# Altium schematic symbol library ESP32_Tang1.SCHLIB: 101 symbols
Pins are listed as number, name and electrical type; pins without a type are passive.

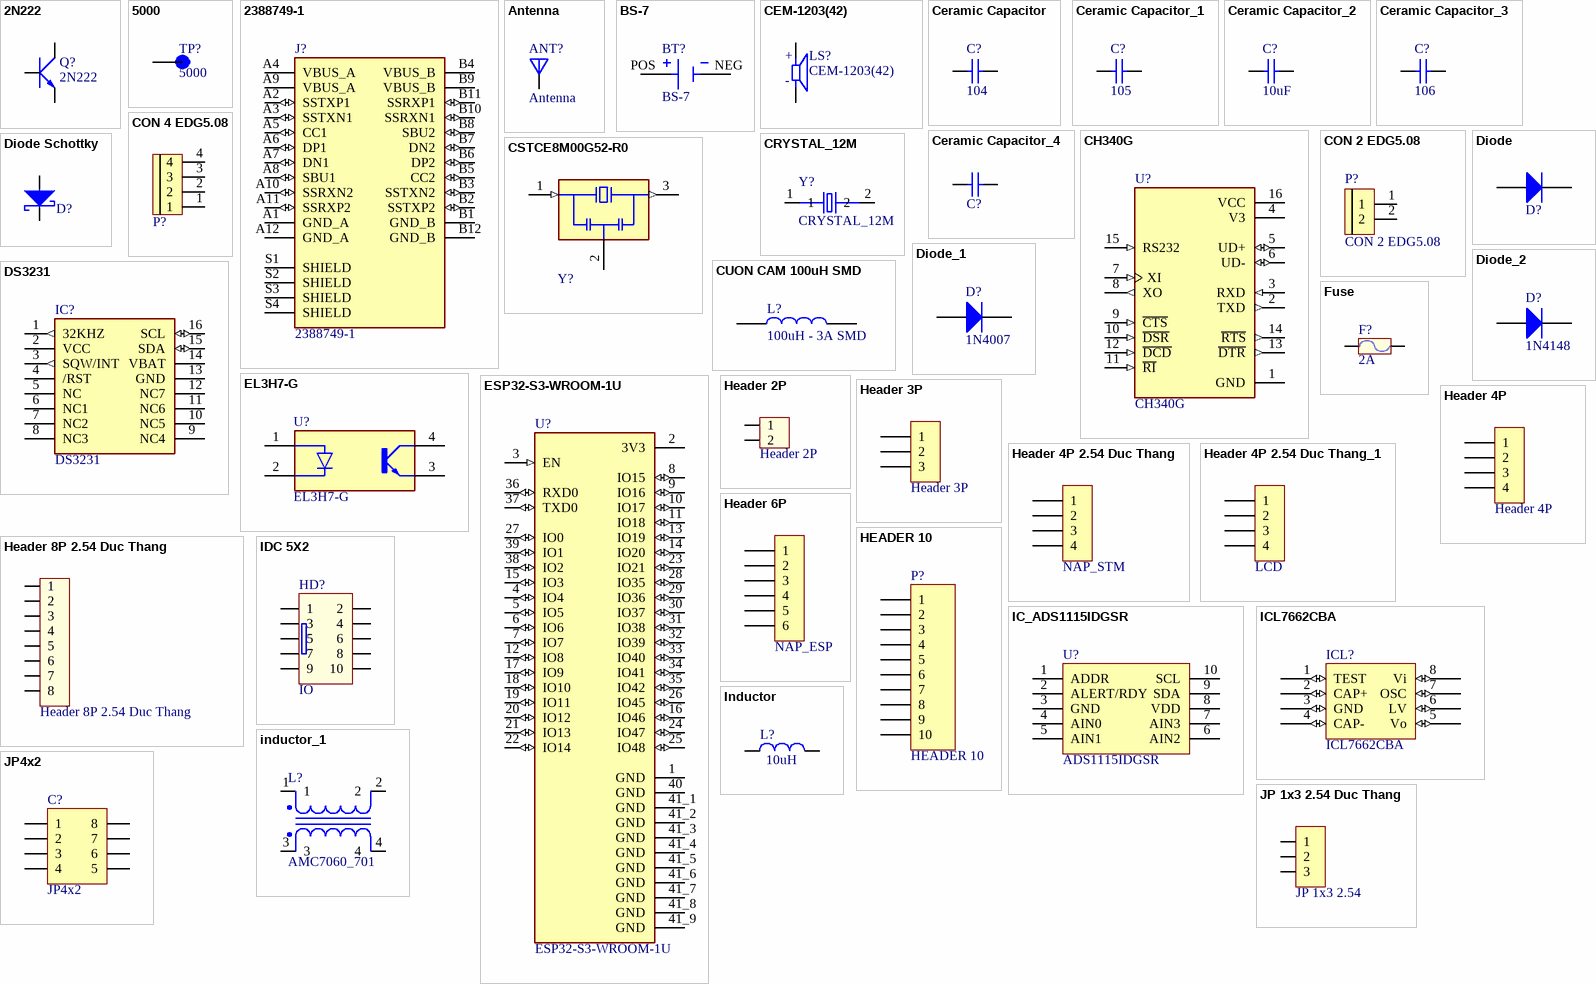
[diagram p0: symbols 2N222 to JP 1x3 2.54 Duc Thang]

## 2N222
designator Q?
NPN 600mW, ECB; Value: C1815
footprint TO92-123 (TO-92)
footprint SOT23-231
footprint TO92-123 - 1 (TO-92)
footprint TO92-123 - 2 (TO-92)
footprint TO92-123 - 3 (TO-92)
pins: 1 E, 2 B, 3 C

## 5000
designator TP?
PC Test Point - Miniature; MF: Keystone Electronics; Purchase-URL: https://pricing.snapeda.com/search/part/5000/?ref=eda; Check_prices: https://www.snapeda.com/parts/5000/Keystone+Electronics/view-part/?ref=eda; Value: *; Price: None; Availability: In Stock; Package: Test Point Keystone Electronics; MP: 5000; SnapEDA_Link: https://www.snapeda.com/parts/5000/Keystone+Electronics/view-part/?ref=snap
footprint KEYSTONE_5000
pins: TP

## 2388749-1
designator J?
USB-C (USB TYPE-C) USB 4.0 Receptacle Connector 24 Position Surface Mount, Right Angle; Through Hole; MF: TE Connectivity; Value: *; SnapEDA_Link: https://www.snapeda.com/parts/2388749-1/TE+Connectivity/view-part/?ref=snap; Purchase-URL: https://pricing.snapeda.com/search/part/2388749-1/?ref=eda; Availability: In Stock; Price: None; Package: None; Check_prices: https://www.snapeda.com/parts/2388749-1/TE+Connectivity/view-part/?ref=eda; MP: 2388749-1
footprint USBC
pins: A1 GND_A (power), A2 SSTXP1 (io), A3 SSTXN1 (io), A4 VBUS_A (power), A5 CC1 (io), A6 DP1 (io), A7 DN1 (io), A8 SBU1 (io), A9 VBUS_A (power), A10 SSRXN2 (io), A11 SSRXP2 (io), A12 GND_A (power), B1 GND_B (power), B2 SSTXP2 (io), B3 SSTXN2 (io), B4 VBUS_B (power), B5 CC2 (io), B6 DP2 (io), B7 DN2 (io), B8 SBU2 (io), B9 VBUS_B (power), B10 SSRXN1 (io), B11 SSRXP1 (io), B12 GND_B (power), S1 SHIELD, S2 SHIELD, S3 SHIELD, S4 SHIELD

## Antenna
designator ANT?
footprint ANTENNA (for ESP32)
pins: 1 ANT

## BS-7
designator BT?
Battery Holder (Open) Coin, 20.0mm 1 Cell PC Pin; MF: MPD (Memory; SnapEDA_Link: https://www.snapeda.com/parts/BS-7/MPD+%2528Memory+Protection+Devices%2529/view-part/?ref=snap; Package: None; MP: BS-7; Check_prices: https://www.snapeda.com/parts/BS-7/MPD+%2528Memory+Protection+Devices%2529/view-part/?ref=eda; Purchase-URL: https://pricing.snapeda.com/search/part/BS-7/?ref=eda; Digi-Key_Part_Number: BS-7-ND; Value: *
footprint BAT_BS-7
pins: NEG, POS

## CEM-1203(42)
designator LS?
12 mm, 3.5 V, 85 dB, Through Hole, Magnetic Audio Transducer Buzzer; MF: CUI Devices; Package: None; Price: None; Check_prices: https://www.snapeda.com/parts/CEM-1203(42)/CUI+Devices/view-part/?ref=eda; Value: *; CUI_purchase_URL: https://www.cuidevices.com/product/audio/buzzers/audio-transducers/cem-1203(42)?utm_source=snapeda.com&utm_medium=referral&utm_campaign=snapedaBOM; SnapEDA_Link: https://www.snapeda.com/parts/CEM-1203(42)/CUI+Devices/view-part/?ref=snap; MP: CEM-1203(42); Availability: In Stock; Purchase-URL: https://pricing.snapeda.com/search/part/CEM-1203(42)/?ref=eda
footprint CUI_CEM-1203(42)
pins: N, P
text: +; -

## Ceramic Capacitor
designator C?, comment 104
Chung_Loai: Dán; Don_Vi: Con; So_Chan: 2; Ten_Linh_Kien: Tụ 0805 104-100nF 10% 50V; Ma_Hang: MH004551; Kieu_Chan: *
footprint 0603_Cap (0603 SMD Ceramic Capacitor)
footprint 0805_Cap (0805 SMD Ceramic Capacitor)
footprint 1206_CAP (3216 Tantalum Capacitor)
pins: 1, 2

## Ceramic Capacitor_1
designator C?, comment 105
Chung_Loai: Dán; Don_Vi: Con; So_Chan: 2; Ten_Linh_Kien: Tụ 0805 104-100nF 10% 50V; Ma_Hang: MH004551; Kieu_Chan: *
footprint 0603_Cap (0603 SMD Ceramic Capacitor)
footprint 0805_Cap (0805 SMD Ceramic Capacitor)
footprint 1206_CAP (3216 Tantalum Capacitor)
pins: 1, 2

## Ceramic Capacitor_2
designator C?, comment 10uF
Chung_Loai: Dán; Don_Vi: Con; So_Chan: 2; Ten_Linh_Kien: Tụ 0805 104-100nF 10% 50V; Ma_Hang: MH004551; Kieu_Chan: *
footprint 0603_Cap (0603 SMD Ceramic Capacitor)
footprint 0805_Cap (0805 SMD Ceramic Capacitor)
footprint 1206_CAP (3216 Tantalum Capacitor)
pins: 1, 2

## Ceramic Capacitor_3
designator C?, comment 106
Chung_Loai: Dán; Don_Vi: Con; So_Chan: 2; Ten_Linh_Kien: Tụ 0805 104-100nF 10% 50V; Ma_Hang: MH004551; Kieu_Chan: *
footprint 0603_Cap (0603 SMD Ceramic Capacitor)
footprint 0805_Cap (0805 SMD Ceramic Capacitor)
footprint 1206_CAP (3216 Tantalum Capacitor)
pins: 1, 2

## Ceramic Capacitor_4
designator C?, comment 101  (value not drawn)
Chung_Loai: Dán; Don_Vi: Con; So_Chan: 2; Ten_Linh_Kien: Tụ 0805 104-100nF 10% 50V; Ma_Hang: MH004551; Kieu_Chan: *
footprint 0603_Cap (0603 SMD Ceramic Capacitor)
footprint 0805_Cap (0805 SMD Ceramic Capacitor)
footprint 1206_CAP (3216 Tantalum Capacitor)
pins: 1, 2

## CH340G
designator U?
USB Interface Integrated Circuit; MF: WCH; Value: *; SnapEDA_Link: https://www.snapeda.com/parts/Ch340G/WCH/view-part/?ref=snap; MP: Ch340G; Check_prices: https://www.snapeda.com/parts/Ch340G/WCH/view-part/?ref=eda; Availability: Not in stock; Price: None; Package: None
footprint SOIC127P600X180-16N
pins: 1 GND (power), 2 TXD (out), 3 RXD (in), 4 V3 (power), 5 UD+ (io), 6 UD- (io), 7 XI (in), 8 XO (out), 9 ~{CTS} (in), 10 ~{DSR} (in), 11 ~{RI} (in), 12 ~{DCD} (in), 13 ~{DTR} (out), 14 ~{RTS} (out), 15 RS232 (in), 16 VCC (power)

## CON 2 EDG5.08
designator P?
Cắm; Ten_Linh_Kien: CON 2 2EDG5.08-2P 5.08MM ( Xanh Cong); Ma_Hang: MH000759; Ghi_Chu: *; Don_Vi: Con; Kieu_Chan: *; Chung_Loai: Cắm
footprint CON 2 2EDG5.08
pins: 1, 2

## CON 4 EDG5.08
designator P?  (value not drawn)
Cắm; Ten_Linh_Kien: CON 4 2EDG5.08-4P 5.08MM ( Xanh Cong); Ma_Hang: MH000979; Don_Vi: Con; Ghi_Chu: *; Kieu_Chan: *; Chung_Loai: Cắm
footprint CON 4 4EDG5.08
pins: 1, 2, 3, 4

## CRYSTAL_12M
designator Y?
HC49SDLF Series 12.288 MHz Â±30 ppm 20 pF -20 to +70 Â°C Resistance Weld Crystal; MF: Fox Electronics; MP: FOXSDLF/128-20/TR; Price: None; Package: None; Availability: Unavailable; Value: *; SnapEDA_Link: https://www.snapeda.com/parts/FOXSDLF/128-20/TR/Fox%20Electronics/view-part/1118363/?ref=snap
footprint XTAL1170X500X450
pins: 1, 2

## CSTCE8M00G52-R0
designator Y?  (value not drawn)
8MHz Ceramic Resonator Built in Capacitor 10pF Â±0.2% -20Â°C ~ 80Â°C Surface Mount; MF: Murata; Price: None; Check_prices: https://www.snapeda.com/parts/CSTCE8M00G52-R0/Murata%20Electronics%20North%20America/view-part/234504/?ref=eda; SnapEDA_Link: https://www.snapeda.com/parts/CSTCE8M00G52-R0/Murata%20Electronics%20North%20America/view-part/234504/?ref=snap; Package: Surface Mount Murata Electronics North America; Availability: Bad; MP: CSTCE8M00G52-R0; Value: *
footprint OSC_CSTCE8M00G52-R0
pins: 1 IN (in), 2 GND (power), 3 OUT (out)

## CUON CAM 100uH SMD
designator L?, comment 100uH - 3A SMD
Dán; Don_Vi: Con; Ma_Hang: MH003999; Ten_Linh_Kien: Cuộn Cảm 100uH 7x7x4MM CD74; Ma_Hang: *; Kieu_Chan: *; Chung_Loai: Dán
footprint Cuon Cam 12x12x10
pins: 1, 2

## Diode
designator D?, comment RS3M  (value not drawn)
Ten_Linh_Kien: Diode S4 SOD123 ( 1N5819 SOD123); Ma_Hang: MH005519; Chung_Loai: Dán; Don_Vi: Con; Ghi_Chu: *; Kieu_Chan: *
footprint SMC - DO-214 (TVS Diode)
footprint SMA - DO-214AC (TVS Diode)
footprint SMB - DO-214AA (TVS Diode)
footprint SOD-323
pins: 1, 2

## Diode Schottky
designator D?, comment SS24  (value not drawn)
Diode Schottky; Part Number: LED 3 ly Single Colour; Pricing: *
footprint DO-214AC
footprint SOD123
footprint DIO-SMD-106
pins: 1, 2

## Diode_1
designator D?, comment 1N4007
Ten_Linh_Kien: Diode S4 SOD123 ( 1N5819 SOD123); Ma_Hang: MH005519; Chung_Loai: Dán; Don_Vi: Con; Ghi_Chu: *; Kieu_Chan: *
footprint SMC - DO-214 (TVS Diode)
footprint SMA - DO-214AC (TVS Diode)
footprint SMB - DO-214AA (TVS Diode)
footprint SOD-323
pins: 1, 2

## Diode_2
designator D?, comment 1N4148
Ten_Linh_Kien: Diode S4 SOD123 ( 1N5819 SOD123); Ma_Hang: MH005519; Chung_Loai: Dán; Don_Vi: Con; Ghi_Chu: *; Kieu_Chan: *
footprint SMC - DO-214 (TVS Diode)
footprint SMA - DO-214AC (TVS Diode)
footprint SMB - DO-214AA (TVS Diode)
footprint SOD-323
pins: 1, 2

## DS3231
designator IC?  (value not drawn)
Real Time Clock (RTC) IC Clock/Calendar - IÂ²C, 2-Wire Serial 8-SOIC (0.154, 3.90mm Width); MF: Maxim Integrated; Check_prices: https://www.snapeda.com/parts/DS3231/Maxim+Integrated/view-part/?ref=eda; Value: *; Availability: In Stock; MP: DS3231; Price: None; Package: SOIC-16 Maxim Integrated; SnapEDA_Link: https://www.snapeda.com/parts/DS3231/Maxim+Integrated/view-part/?ref=snap; Purchase-URL: https://pricing.snapeda.com/search/part/DS3231/?ref=eda
footprint SOIC-16
pins: 1 32KHZ (out), 2 VCC (power), 3 SQW/INT (out), 4 /RST, 5 NC, 6 NC1, 7 NC2, 8 NC3, 9 NC4, 10 NC5, 11 NC6, 12 NC7, 13 GND (power), 14 VBAT (power), 15 SDA (io), 16 SCL (io)

## EL3H7-G
designator U?
Optoisolator Transistor Output 3750Vrms 1 Channel 4-SSOP; MF: Everlight Electronics; Check_prices: https://www.snapeda.com/parts/EL3H7-G/Everlight+Electronics+Co+Ltd/view-part/?ref=eda; Value: *; Availability: In Stock; MP: EL3H7-G; Price: None; Package: SSOP-4 Everlight Electronics; SnapEDA_Link: https://www.snapeda.com/parts/EL3H7-G/Everlight+Electronics+Co+Ltd/view-part/?ref=snap
footprint SSOP-4 (SMD)
pins: 1 A, 2 C, 3 E, 4 CO

## ESP32-S3-WROOM-1U
designator U?
2.4 GHz Wi-Fi (802.11 b/g/n) and Bluetooth 5 (LE) module; MF: Espressif Systems; Value: *; Package: Package; Check_prices: https://www.snapeda.com/parts/ESP32-S3-WROOM-1U/Espressif+Systems/view-part/?ref=eda; Price: None; MP: ESP32-S3-WROOM-1U; Availability: Not in stock; SnapEDA_Link: https://www.snapeda.com/parts/ESP32-S3-WROOM-1U/Espressif+Systems/view-part/?ref=snap
footprint XCVR_ESP32-S3-WROOM-1U
pins: 1 GND (power), 2 3V3 (power), 3 EN (in), 4 IO4 (io), 5 IO5 (io), 6 IO6 (io), 7 IO7 (io), 8 IO15 (io), 9 IO16 (io), 10 IO17 (io), 11 IO18 (io), 12 IO8 (io), 13 IO19 (io), 14 IO20 (io), 15 IO3 (io), 16 IO46 (io), 17 IO9 (io), 18 IO10 (io), 19 IO11 (io), 20 IO12 (io), 21 IO13 (io), 22 IO14 (io), 23 IO21 (io), 24 IO47 (io), 25 IO48 (io), 26 IO45 (io), 27 IO0 (io), 28 IO35 (io), 29 IO36 (io), 30 IO37 (io), 31 IO38 (io), 32 IO39 (io), 33 IO40 (io), 34 IO41 (io), 35 IO42 (io), 36 RXD0 (io), 37 TXD0 (io), 38 IO2 (io), 39 IO1 (io), 40 GND (power), 41_1 GND (power), 41_2 GND (power), 41_3 GND (power), 41_4 GND (power), 41_5 GND (power), 41_6 GND (power), 41_7 GND (power), 41_8 GND (power), 41_9 GND (power)

## Fuse
designator F?, comment 2A
Fuse; Designed by: VanDungEvn; Value: Fuse
footprint Fuse4 (FUSEHOLDER BLOCKS - PCB - CLIP COVER - THT - WR-FSH)
footprint Fuse1
footprint FUSE2 (De Fuse)
footprint Fuse5 (PCB - Clip Cover - THR)
footprint Fuse3 (FUSEHOLDER BLOCKS - PCB - CLIP COVER - THT - WR-FSH)
footprint Fuse6 (FUSEHOLDER BLOCKS - PCB - CLIP COVER - THT - WR-FSH)
footprint Fuse7 (FUSEHOLDER BLOCKS - PCB - CLIP COVER - THT - WR-FSH)
footprint Fuse8 (WR-FSH Shocksafe Fuseholder-PCB-Turn and Lock Cover-THT)
footprint Fuse9 (WR-FSH Shocksafe Fuseholder-PCB-Turn and Lock Cover-THT)
pins: 1, 2

## Header 2P
designator H?
THT; Ten_Linh_Kien: Header 2P XH2.54-2P Đực Cong; Don_Vi: Con; Ma_Hang: MH002852; Chung_Loai: Cắm
footprint XH2.54M-2
footprint CON 2 EDG5.08-2P
footprint JP 1x2
pins: 1, 2

## Header 3P
designator H?
THT; Ten_Linh_Kien: Header 3P XH2.54-3P Đực Cong; Don_Vi: Con; Ma_Hang: MH001302; Chung_Loai: Cắm
footprint XH2.54M-3
footprint CON 3 EDG5.08-3P
footprint JP 1X3
pins: 1, 2, 3

## Header 4P
designator H?
THT; Ten_Linh_Kien: Header 4P XH2.54-4P Đực Cong; Don_Vi: Con; Ma_Hang: MH001310; Chung_Loai: Cắm
footprint XH2.54M-4
footprint CON 4 EDG5.08-4P
footprint JP 1X4
pins: 1, 2, 3, 4

## Header 4P 2.54 Duc Thang
designator H?, comment NAP_STM
Cắm; Ten_Linh_Kien: Header 4P XH2.54-4P Đực Thẳng; Don_Vi: Con; Ma_Hang: MH001285; Chung_Loai: Cắm
footprint XH2.54M-4
pins: 1, 2, 3, 4

## Header 4P 2.54 Duc Thang_1
designator H?, comment LCD
Cắm; Ten_Linh_Kien: Header 4P XH2.54-4P Đực Thẳng; Don_Vi: Con; Ma_Hang: MH001285; Chung_Loai: Cắm
footprint XH2.54M-4
pins: 1, 2, 3, 4

## Header 6P
designator H?, comment NAP_ESP
THT; Ten_Linh_Kien: Header 6P XH2.54-6P Đực Cong; Don_Vi: Con; Ma_Hang: MH003363; Chung_Loai: Cắm
footprint XH2.54M-6
footprint JP 1X6
pins: 1, 2, 3, 4, 5, 6

## Header 8P 2.54 Duc Thang
designator H?
Cắm; Ten_Linh_Kien: Header 8P XH2.54-8P Đực Thẳng; Don_Vi: Con; Ma_Hang: MH003366; Chung_Loai: Cắm
footprint XH2.54M-8
pins: 1, 2, 3, 4, 5, 6, 7, 8

## HEADER 10
designator P?
footprint HEADER 10
footprint HD 10
footprint HDR 10x1H (2) (Quay 3D sang hu?ng khác)
footprint HDR 10x1H (JUMP 10, Curve)
footprint HT508R-10P
pins: 1, 2, 3, 4, 5, 6, 7, 8, 9, 10

## IC_ADS1115IDGSR
designator U?, comment ADS1115IDGSR
Analog to Digital Converters - ADC 16B ADC w/ Int MUX PGA Comp Osc & Ref; Manufacturer: Texas Instruments; Alternate Part Number-1: NA; Manufacturer Part Number: ADS1115IDGSR; Case/Package: MSOP-10; Supplier-1: Mouser; Supplier Part Number-1: 595-ADS1115IDGSR
footprint VSOP-10_19.6_230_57X12_SMD (VSOP Package)
pins: 1 ADDR, 2 ALERT/RDY, 3 GND, 4 AIN0, 5 AIN1, 6 AIN2, 7 AIN3, 8 VDD, 9 SDA, 10 SCL

## ICL7662CBA
designator ICL?
footprint ICL7662CBA
pins: 1 TEST (io), 2 CAP+ (io), 3 GND (io), 4 CAP- (io), 5 Vo (io), 6 LV (io), 7 OSC (io), 8 Vi (io)

## IDC 5X2
designator HD?, comment IO
Value: Header 5x2
footprint IDC10-BH
footprint IDC10
footprint IDC10-S
pins: 1, 2, 3, 4, 5, 6, 7, 8, 9, 10

## Inductor
designator L?, comment 10uH
Inductors from EPCOS include SMT Inductors, SMT Power Inductors, Transponder Coils, ISDN Transformers, xDSL Transformers, DC/DC Converters, RF Transformers and SMT Current Sense Transformers.; MP: B82477G4472M000; Price: None; SnapEDA_Link: https://www.snapeda.com/parts/B82477G4472M000/EPCOS/view-part/?ref=snap; Package: NON STANDARD-2 EPCOS; Value: *; Check_prices: https://www.snapeda.com/parts/B82477G4472M000/EPCOS/view-part/?ref=eda; Availability: In Stock; MF: EPCOS; Purchase-URL: https://pricing.snapeda.com/search/part/B82477G4472M000/?ref=eda
footprint 0603_Inductor (SMD)
footprint Inductor 5A (THT)
pins: 1, 2

## inductor_1
designator L?, comment AMC7060_701
Common mode choke / cuon cam xuyen
footprint Double inductor (cuon cam xuyen doi)
pins: 1, 2, 3, 4

## JP4x2
designator C?
WR-PHD 2.54 mm Dual Socket Header; Manufacturer: W¨¹rth Elektronik eiSos GmbH; partNo: 61300821821; ComponentLink1 Description: Manufacturer; ComponentLink2 Description: Datasheet; NoPins: 08; Created Date: 29 March 2013; ComponentLink1URL: http://www.we-online.com; ComponentLink2URL: http://katalog.we-online.de/em/datasheet/6130xx21821.pdf; Created by: Karrer Zheng
footprint JP4-D2T (8 pins, dual pin, straight, gold plating)
footprint JP4-C2T (8 pins, dual row, straight, gold plating)
footprint JP4-C2C (08p 2 rows Right angle)
footprint JP4-D2C (08 pins, dual row, right angled, gold plating)
pins: 1, 2, 3, 4, 5, 6, 7, 8

## JP 1x3 2.54 Duc Thang
designator JP?, comment JP 1x3 2.54
Cắm; Ten_Linh_Kien: Jump Đơn Đực 2.54MM 1x40P Thẳng 11MM; Don_Vi: Con; Ma_Hang: MH000903; Ghi_Chu: *; Kieu_Chan: *; Chung_Loai: Cắm
footprint JP 1x3 DT
pins: 1, 2, 3

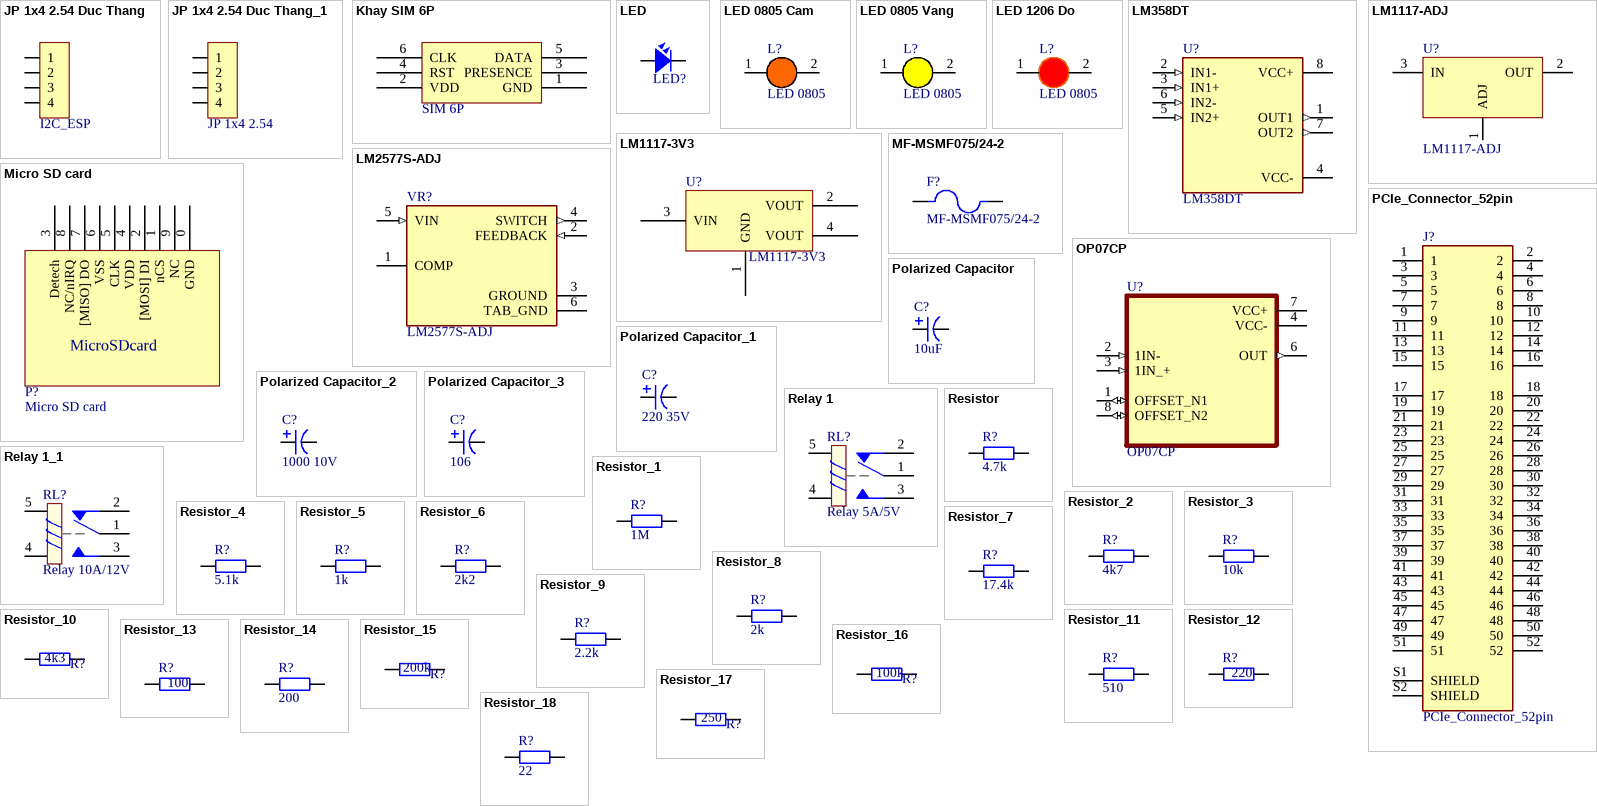
[diagram p1: symbols JP 1x4 2.54 Duc Thang to Resistor_18]

## JP 1x4 2.54 Duc Thang
designator JP?, comment I2C_ESP
Cắm; Ten_Linh_Kien: Jump Đơn Đực 2.54MM 1x40P Thẳng 11MM; Don_Vi: Con; Ma_Hang: MH000903; Ghi_Chu: *; Kieu_Chan: *; Chung_Loai: Cắm
footprint JP 1x4 DT (4 pins, 1 row, straight, gold plating)
pins: 1, 2, 3, 4

## JP 1x4 2.54 Duc Thang_1
designator JP?, comment JP 1x4 2.54
Cắm; Ten_Linh_Kien: Jump Đơn Đực 2.54MM 1x40P Thẳng 11MM; Don_Vi: Con; Ma_Hang: MH000903; Ghi_Chu: *; Kieu_Chan: *; Chung_Loai: Cắm
footprint JP 1x4 DT (4 pins, 1 row, straight, gold plating)
pins: 1, 2, 3, 4

## Khay SIM 6P
designator SIM?, comment SIM 6P
footprint sim6
pins: 1 GND, 2 VDD, 3 PRESENCE, 4 RST, 5 DATA, 6 CLK

## LED
designator LED?  (value not drawn)
LED single color 2 leads
footprint 0603_LED (LED single color 2 leads)
pins: A Anode, C Cathode

## LED 0805 Cam
designator L?, comment LED 0805
Dán; Don_Vi: Con; Ma_Hang: MH002328; Ten_Linh_Kien: LED 0805 Màu Cam ( Orange); Ghi_Chu: *; Kieu_Chan: *; Chung_Loai: Dán
footprint LED-0805-Orange
pins: 1 A, 2 K

## LED 0805 Vang
designator L?, comment LED 0805
Dán; Don_Vi: Con; Ma_Hang: MH002329; Ten_Linh_Kien: LED 0805 Màu Vàng ( Yellow); Ghi_Chu: *; Kieu_Chan: *; Chung_Loai: Dán
footprint LED-0805-Yellow
pins: 1 A, 2 K

## LED 1206 Do
designator L?, comment LED 0805
Dán; Don_Vi: Con; Ma_Hang: MH002334; Ten_Linh_Kien: LED1206 Màu Đỏ (Red); Ghi_Chu: *; Kieu_Chan: *; Chung_Loai: Dán
footprint LED-1206-Red
pins: 1 A, 2 K

## LM358DT
designator U?
General Purpose Amplifier 2 Circuit 8-SO; MF: STMicroelectronics; Price: None; Package: SOIC-8 STMicroelectronics; MP: LM358DT; Value: *; Availability: Unavailable; SnapEDA_Link: https://www.snapeda.com/parts/LM358DT/STMicroelectronics/view-part/6634/?ref=snap
footprint SOIC127P600X175-8N
pins: 1 OUT1 (out), 2 IN1- (in), 3 IN1+ (in), 4 VCC- (power), 5 IN2+ (in), 6 IN2- (in), 7 OUT2 (out), 8 VCC+ (power)

## LM1117-3V3
designator U?
Value: AMS1117-3.3V SOT223; Don_Vi: Con; Ma_Hang: MH000596; Chung_Loai: Dán; Ghi_Chu: *; Kieu_Chan: *
footprint SOT-223
pins: 1 GND, 2 VOUT, 3 VIN, 4 VOUT

## LM1117-ADJ
designator U?
800mA Low-Dropout Linear Regulator; Creator: Nguyen Ba Bien; Website: http://group3i.net
footprint LM1117-SOP
pins: 1 ADJ, 2 OUT, 3 IN

## LM2577S-ADJ
designator VR?
SIMPLE SWITCHER&reg; 3.5V to 40V, 3A Low Component Count Step-Up Regulator 5-DDPAK/TO-263 -40 to 125; MF: Texas Instruments; Price: None; Package: TO-263-5 Texas Instruments; Purchase-URL: https://pricing.snapeda.com/search/part/LM2577S-ADJ/?ref=eda; Availability: In Stock; SnapEDA_Link: https://www.snapeda.com/parts/LM2577S-ADJ/Texas+Instruments/view-part/?ref=snap; Value: *; MP: LM2577S-ADJ; Check_prices: https://www.snapeda.com/parts/LM2577S-ADJ/Texas+Instruments/view-part/?ref=eda
footprint TO170P1524X483-6N
pins: 1 COMP, 2 FEEDBACK (in), 3 GROUND (power), 4 SWITCH (out), 5 VIN (in), 6 TAB_GND (power)

## MF-MSMF075/24-2
designator F?
Polymeric PTC Resettable Fuse 24V 750 mA Ih Surface Mount 1812 (4532 Metric), Concave; MF: Bourns; Value: *; Check_prices: https://www.snapeda.com/parts/MF-MSMF075/24-2/Bourns/view-part/?ref=eda; Availability: In Stock; Price: None; MP: MF-MSMF075/24-2; Package: 1812 Bourns; SnapEDA_Link: https://www.snapeda.com/parts/MF-MSMF075/24-2/Bourns/view-part/?ref=snap; Purchase-URL: https://pricing.snapeda.com/search/part/MF-MSMF075/24-2/?ref=eda
footprint FUSER_MF-MSMF075/24-2
pins: 1, 2

## Micro SD card
designator P?
footprint MicroSD
pins: 0 GND, 1 nCS, 2 [MOSI] DI, 3 Detech, 4 VDD, 5 CLK, 6 VSS, 7 [MISO] DO, 8 NC/nIRQ, 9 NC
text: MicroSDcard

## OP07CP
designator U?
Low-Offset Voltage Operational Amplifier; MF: Texas Instruments; Package: PDIP-8 Texas Instruments; Availability: Unavailable; Texas_Instruments-Purchase-URL: https://snapeda.com/shop?store=Texas+Instruments&id=558076; MP: OP07CP; DigiKey-Purchase-URL: https://snapeda.com/shop?store=DigiKey&id=558076; Value: *; Price: None; SnapEDA_Link: https://www.snapeda.com/parts/OP07CP/Texas%20Instruments/view-part/558076/?ref=snap; Mouser-Purchase-URL: https://snapeda.com/shop?store=Mouser&id=558076
footprint DIP794W45P254L959H508Q8
pins: 1 OFFSET_N1 (io), 2 1IN- (in), 3 1IN_+ (in), 4 VCC- (power), 6 OUT (out), 7 VCC+ (power), 8 OFFSET_N2 (io)

## PCIe_Connector_52pin
designator J?
52 Position Female Connector PCI Express Mini Card Gold 0.031 _0.80mm_ Black; MF: Molex; MP: 67910-0002; SnapEDA_Link: https://www.snapeda.com/parts/67910-0002/Molex/view-part/423219/?ref=snap; Availability: Unavailable; Package: None; Value: *; Price: None
footprint MOLEX_67910-0002
pins: 1, 2, 3, 4, 5, 6, 7, 8, 9, 10, 11, 12, 13, 14, 15, 16, 17, 18, 19, 20, 21, 22, 23, 24, 25, 26, 27, 28, 29, 30, 31, 32, 33, 34, 35, 36, 37, 38, 39, 40, 41, 42, 43, 44, 45, 46, 47, 48, 49, 50, 51, 52, S1 SHIELD, S2 SHIELD

## Polarized Capacitor
designator C?, comment 10uF
Polarized Capacitor
footprint 1206_CAP (3216 Tantalum Capacitor)
footprint 8x12 radial capacitor
pins: 1, 2

## Polarized Capacitor_1
designator C?, comment 220 35V
Polarized Capacitor
footprint 1206_CAP (3216 Tantalum Capacitor)
footprint 8x12 radial capacitor
pins: 1, 2

## Polarized Capacitor_2
designator C?, comment 1000 10V
Polarized Capacitor
footprint 1206_CAP (3216 Tantalum Capacitor)
footprint 8x12 radial capacitor
pins: 1, 2

## Polarized Capacitor_3
designator C?, comment 106
Polarized Capacitor
footprint 1206_CAP (3216 Tantalum Capacitor)
footprint 8x12 radial capacitor
pins: 1, 2

## Relay 1
designator RL?, comment Relay 5A/5V
Relay SPDT,10A - 12VDC 5 Pin; Value: Relay SPDT, 10A, 12V
footprint RL_SPDT_10A (Relay SPDT, 5 pin, 10A,W 650mil, L 800mil, H 800mil)
pins: 1, 2, 3, 4, 5

## Relay 1_1
designator RL?, comment Relay 10A/12V
Relay SPDT,10A - 12VDC 5 Pin; Value: Relay SPDT, 10A, 12V
footprint RL_SPDT_10A (Relay SPDT, 5 pin, 10A,W 650mil, L 800mil, H 800mil)
pins: 1, 2, 3, 4, 5

## Resistor
designator R?, comment 4.7k
Chung_Loai: Dán; Don_Vi: Con; So_Chan: 2; Ten_Linh_Kien: Trở 0805 1% 1k; Ma_Hang: MH005468; Kieu_Chan: *
footprint 0805_Res (0805 SMD Resistor)
footprint 0603_Res (0603 SMD Resistor)
pins: 1, 2

## Resistor_1
designator R?, comment 1M
Chung_Loai: Dán; Don_Vi: Con; So_Chan: 2; Ten_Linh_Kien: Trở 0805 1% 1k; Ma_Hang: MH005468; Kieu_Chan: *
footprint 0805_Res (0805 SMD Resistor)
footprint 0603_Res (0603 SMD Resistor)
pins: 1, 2

## Resistor_2
designator R?, comment 4k7
Chung_Loai: Dán; Don_Vi: Con; So_Chan: 2; Ten_Linh_Kien: Trở 0805 1% 1k; Ma_Hang: MH005468; Kieu_Chan: *
footprint 0805_Res (0805 SMD Resistor)
footprint 0603_Res (0603 SMD Resistor)
pins: 1, 2

## Resistor_3
designator R?, comment 10k
Chung_Loai: Dán; Don_Vi: Con; So_Chan: 2; Ten_Linh_Kien: Trở 0805 1% 1k; Ma_Hang: MH005468; Kieu_Chan: *
footprint 0805_Res (0805 SMD Resistor)
footprint 0603_Res (0603 SMD Resistor)
pins: 1, 2

## Resistor_4
designator R?, comment 5.1k
Chung_Loai: Dán; Don_Vi: Con; So_Chan: 2; Ten_Linh_Kien: Trở 0805 1% 1k; Ma_Hang: MH005468; Kieu_Chan: *
footprint 0805_Res (0805 SMD Resistor)
footprint 0603_Res (0603 SMD Resistor)
pins: 1, 2

## Resistor_5
designator R?, comment 1k
Chung_Loai: Dán; Don_Vi: Con; So_Chan: 2; Ten_Linh_Kien: Trở 0805 1% 1k; Ma_Hang: MH005468; Kieu_Chan: *
footprint 0805_Res (0805 SMD Resistor)
footprint 0603_Res (0603 SMD Resistor)
pins: 1, 2

## Resistor_6
designator R?, comment 2k2
Chung_Loai: Dán; Don_Vi: Con; So_Chan: 2; Ten_Linh_Kien: Trở 0805 1% 1k; Ma_Hang: MH005468; Kieu_Chan: *
footprint 0805_Res (0805 SMD Resistor)
footprint 0603_Res (0603 SMD Resistor)
pins: 1, 2

## Resistor_7
designator R?, comment 17.4k
Chung_Loai: Dán; Don_Vi: Con; So_Chan: 2; Ten_Linh_Kien: Trở 0805 1% 1k; Ma_Hang: MH005468; Kieu_Chan: *
footprint 0805_Res (0805 SMD Resistor)
footprint 0603_Res (0603 SMD Resistor)
pins: 1, 2

## Resistor_8
designator R?, comment 2k
Chung_Loai: Dán; Don_Vi: Con; So_Chan: 2; Ten_Linh_Kien: Trở 0805 1% 1k; Ma_Hang: MH005468; Kieu_Chan: *
footprint 0805_Res (0805 SMD Resistor)
footprint 0603_Res (0603 SMD Resistor)
pins: 1, 2

## Resistor_9
designator R?, comment 2.2k
Chung_Loai: Dán; Don_Vi: Con; So_Chan: 2; Ten_Linh_Kien: Trở 0805 1% 1k; Ma_Hang: MH005468; Kieu_Chan: *
footprint 0805_Res (0805 SMD Resistor)
footprint 0603_Res (0603 SMD Resistor)
pins: 1, 2

## Resistor_10
designator R?, comment 4k3
Chung_Loai: Dán; Don_Vi: Con; So_Chan: 2; Ten_Linh_Kien: Trở 0805 1% 1k; Ma_Hang: MH005468; Kieu_Chan: *
footprint 0805_Res (0805 SMD Resistor)
footprint 0603_Res (0603 SMD Resistor)
pins: 1, 2

## Resistor_11
designator R?, comment 510
Chung_Loai: Dán; Don_Vi: Con; So_Chan: 2; Ten_Linh_Kien: Trở 0805 1% 1k; Ma_Hang: MH005468; Kieu_Chan: *
footprint 0805_Res (0805 SMD Resistor)
footprint 0603_Res (0603 SMD Resistor)
pins: 1, 2

## Resistor_12
designator R?, comment 220
Chung_Loai: Dán; Don_Vi: Con; So_Chan: 2; Ten_Linh_Kien: Trở 0805 1% 1k; Ma_Hang: MH005468; Kieu_Chan: *
footprint 0805_Res (0805 SMD Resistor)
footprint 0603_Res (0603 SMD Resistor)
pins: 1, 2

## Resistor_13
designator R?, comment 100
Chung_Loai: Dán; Don_Vi: Con; So_Chan: 2; Ten_Linh_Kien: Trở 0805 1% 1k; Ma_Hang: MH005468; Kieu_Chan: *
footprint 0805_Res (0805 SMD Resistor)
footprint 0603_Res (0603 SMD Resistor)
pins: 1, 2

## Resistor_14
designator R?, comment 200
Chung_Loai: Dán; Don_Vi: Con; So_Chan: 2; Ten_Linh_Kien: Trở 0805 1% 1k; Ma_Hang: MH005468; Kieu_Chan: *
footprint 0805_Res (0805 SMD Resistor)
footprint 0603_Res (0603 SMD Resistor)
pins: 1, 2

## Resistor_15
designator R?, comment 200k
Chung_Loai: Dán; Don_Vi: Con; So_Chan: 2; Ten_Linh_Kien: Trở 0805 1% 1k; Ma_Hang: MH005468; Kieu_Chan: *
footprint 0805_Res (0805 SMD Resistor)
footprint 0603_Res (0603 SMD Resistor)
pins: 1, 2

## Resistor_16
designator R?, comment 100k
Chung_Loai: Dán; Don_Vi: Con; So_Chan: 2; Ten_Linh_Kien: Trở 0805 1% 1k; Ma_Hang: MH005468; Kieu_Chan: *
footprint 0805_Res (0805 SMD Resistor)
footprint 0603_Res (0603 SMD Resistor)
pins: 1, 2

## Resistor_17
designator R?, comment 250
Chung_Loai: Dán; Don_Vi: Con; So_Chan: 2; Ten_Linh_Kien: Trở 0805 1% 1k; Ma_Hang: MH005468; Kieu_Chan: *
footprint 0805_Res (0805 SMD Resistor)
footprint 0603_Res (0603 SMD Resistor)
pins: 1, 2

## Resistor_18
designator R?, comment 22
Chung_Loai: Dán; Don_Vi: Con; So_Chan: 2; Ten_Linh_Kien: Trở 0805 1% 1k; Ma_Hang: MH005468; Kieu_Chan: *
footprint 0805_Res (0805 SMD Resistor)
footprint 0603_Res (0603 SMD Resistor)
pins: 1, 2

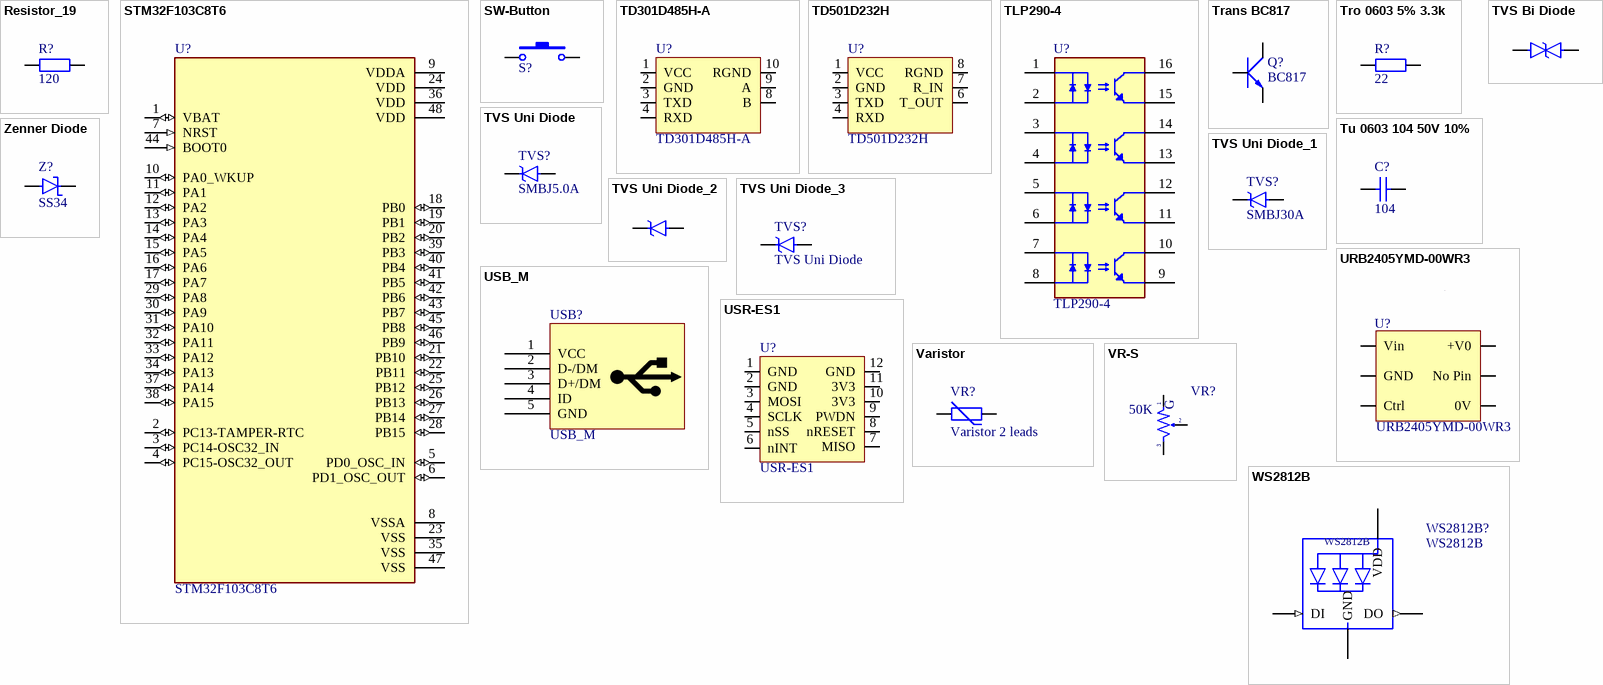
[diagram p2: symbols Resistor_19 to Zenner Diode]

## Resistor_19
designator R?, comment 120
Chung_Loai: Dán; Don_Vi: Con; So_Chan: 2; Ten_Linh_Kien: Trở 0805 1% 1k; Ma_Hang: MH005468; Kieu_Chan: *
footprint 0805_Res (0805 SMD Resistor)
footprint 0603_Res (0603 SMD Resistor)
pins: 1, 2

## STM32F103C8T6
designator U?
ARMÂ® CortexÂ®-M3 STM32F1 Microcontroller IC 32-Bit 72MHz 64KB (64K x 8) FLASH 48-LQFP (7x7); MF: STMicroelectronics; Price: None; Availability: In Stock; MP: STM32F103C8T6; Package: LQFP-48 STMicroelectronics; SnapEDA_Link: https://www.snapeda.com/parts/STM32F103C8T6/STMicroelectronics/view-part/?ref=snap; Check_prices: https://www.snapeda.com/parts/STM32F103C8T6/STMicroelectronics/view-part/?ref=eda; Value: *; Purchase-URL: https://pricing.snapeda.com/search/part/STM32F103C8T6/?ref=eda
footprint LQFP-48
pins: 1 VBAT (io), 2 PC13-TAMPER-RTC (io), 3 PC14-OSC32_IN (io), 4 PC15-OSC32_OUT (io), 5 PD0_OSC_IN (io), 6 PD1_OSC_OUT (io), 7 NRST (in), 8 VSSA (power), 9 VDDA (power), 10 PA0_WKUP (io), 11 PA1 (io), 12 PA2 (io), 13 PA3 (io), 14 PA4 (io), 15 PA5 (io), 16 PA6 (io), 17 PA7 (io), 18 PB0 (io), 19 PB1 (io), 20 PB2 (io), 21 PB10 (io), 22 PB11 (io), 23 VSS (power), 24 VDD (power), 25 PB12 (io), 26 PB13 (io), 27 PB14 (io), 28 PB15 (io), 29 PA8 (io), 30 PA9 (io), 31 PA10 (io), 32 PA11 (io), 33 PA12 (io), 34 PA13 (io), 35 VSS (power), 36 VDD (power), 37 PA14 (io), 38 PA15 (io), 39 PB3 (io), 40 PB4 (io), 41 PB5 (io), 42 PB6 (io), 43 PB7 (io), 44 BOOT0 (in), 45 PB8 (io), 46 PB9 (io), 47 VSS (power), 48 VDD (power)

## SW-Button
designator S?, comment SW  (value not drawn)
Switch-Button; Published: 24-Mar-1999; LatestRevisionDate: 17-Jul-2002; LatestRevisionNote: Re-released for DXP Platform.; PackageReference: SPST-2; Publisher: Altium Limited
footprint BUTTON  ROUND
footprint BUTTON-SMD 2PIN (Switch SMD type)
footprint BUTTON-SMD on Board (Switch SMD type)
footprint BUTTON RIGHT ANGLE
pins: 1, 2

## TD301D485H-A
designator U?
TTL to RS485
footprint TD301D485H-A (RS485 isolated)
pins: 1 VCC, 2 GND, 3 TXD, 4 RXD, 8 B, 9 A, 10 RGND

## TD501D232H
designator U?
footprint TD501D232H (RS485 isolated)
pins: 1 VCC, 2 GND, 3 TXD, 4 RXD, 6 T_OUT, 7 R_IN, 8 RGND

## TLP290-4
designator U?
Optoisolator Transistor Output 2500Vrms 4 Channel 16-SO; MF: Toshiba Semiconductor; Value: *; SnapEDA_Link: https://www.snapeda.com/parts/TLP290-4/Toshiba+Semiconductor+and+Storage/view-part/?ref=snap; MP: TLP290-4; Check_prices: https://www.snapeda.com/parts/TLP290-4/Toshiba+Semiconductor+and+Storage/view-part/?ref=eda; Availability: Not in stock; Price: None; Package: SOIC-16 Toshiba
footprint OPTO_TLP290-4
pins: 1, 2, 3, 4, 5, 6, 7, 8, 9, 10, 11, 12, 13, 14, 15, 16

## Trans BC817
designator Q?, comment BC817
SOT-23 - C8658; Value: C9014
footprint SOT-23 (Footprint not found)
pins: 1 B, 2 E, 3 C

## Tro 0603 5% 3.3k
designator R?, comment 22
Dán; Don_Vi: Con; So_Chan: 2; Ten_Linh_Kien: Trở 0603 5% 3.3k; Ma_Hang: MH006332; Chung_Loai: Dán; Kieu_Chan: *
footprint tro smd 0603 (Chip Capacitor, 2-Leads, Body 1,60x0,80mm, IPC Medium Density)
pins: 1, 2

## Tu 0603 104 50V 10%
designator C?, comment 104
Dán; Don_Vi: Con; So_Chan: 2; Ten_Linh_Kien: Tụ 0603 104-100nF 10% 50V; Ma_Hang: MH004568; Chung_Loai: Dán; Kieu_Chan: *
footprint tu 0603 (Chip Capacitor, 2-Leads, Body 1,60x0,80mm, IPC Medium Density)
pins: 1, 2

## TVS Bi Diode
designator TVS?, comment SMBJ12CA  (value not drawn)
footprint SMA - DO-214AC (TVS Diode)
footprint SMB - DO-214AA (TVS Diode)
footprint SMC - DO-214 (TVS Diode)
pins: 1, 2

## TVS Uni Diode
designator TVS?, comment SMBJ5.0A
footprint SMB - DO-214AA (TVS Diode)
footprint SMA - DO-214AC (TVS Diode)
footprint SMC - DO-214 (TVS Diode)
pins: 1, 2

## TVS Uni Diode_1
designator TVS?, comment SMBJ30A
footprint SMB - DO-214AA (TVS Diode)
footprint SMA - DO-214AC (TVS Diode)
footprint SMC - DO-214 (TVS Diode)
pins: 1, 2

## TVS Uni Diode_2
designator TVS?, comment TVS Diode  (value not drawn)
footprint SMB - DO-214AA (TVS Diode)
footprint SMA - DO-214AC (TVS Diode)
footprint SMC - DO-214 (TVS Diode)
pins: 1, 2

## TVS Uni Diode_3
designator TVS?, comment TVS Uni Diode
footprint SMB - DO-214AA (TVS Diode)
footprint SMA - DO-214AC (TVS Diode)
footprint SMC - DO-214 (TVS Diode)
pins: 1, 2

## URB2405YMD-00WR3
designator U?
footprint URB2405YMD-xxWR3 (DC-DC Converter)
pins: 1 Ctrl, 2 GND, 3 Vin, 4 +V0, 5 No Pin, 6 0V

## USB_M
designator USB?
footprint USB_B_MINI_SMD
footprint USB-M1
footprint USB-M4
footprint USB-M6 (MOLEX 51387-0571)
footprint USB-M2
footprint USB-M3
pins: 1 VCC, 2 D-/DM, 3 D+/DM, 4 ID, 5 GND

## USR-ES1
designator U?
Ethernet module
footprint USR-ES1 (Ethernet module)
pins: 1 GND, 2 GND, 3 MOSI, 4 SCLK, 5 nSS, 6 nINT, 7 MISO, 8 nRESET, 9 PWDN, 10 3V3, 11 3V3, 12 GND

## Varistor
designator VR?, comment Varistor 2 leads
footprint Varistor
pins: 1, 2

## VR-S
designator VR?, comment 50K
Var Resistor; Value: Volume 50k
footprint VR-S4
footprint VR-S1
footprint VR-S2 (Resistor Variable)
footprint VR-S3 (Variable Resistor)
pins: 1, 2, 3
text: G

## WS2812B
designator WS2812B?
footprint WS2812B
pins: 1-VDD VDD (power), 2-DOUT DO (out), 3-GND GND (power), 4-DIN DI (in)

## Zenner Diode
designator Z?, comment SS34
MP: 1SMA5926; MF: Taiwan Semiconductor; Package: SMA-2 Taiwan Semiconductor; Availability: In Stock; Purchase-URL: https://pricing.snapeda.com/search/part/1SMA5926/?ref=eda; SnapEDA_Link: https://www.snapeda.com/parts/1SMA5926/Taiwan+Semiconductor/view-part/?ref=snap; Price: None; Check_prices: https://www.snapeda.com/parts/1SMA5926/Taiwan+Semiconductor/view-part/?ref=eda; Value: *
footprint SMB - DO-214AA (TVS Diode)
pins: 1, 2